# Altium integrated library TI Data Converters Analog to Digital Converter.IntLib: 2198 symbols (part 106 of 164)
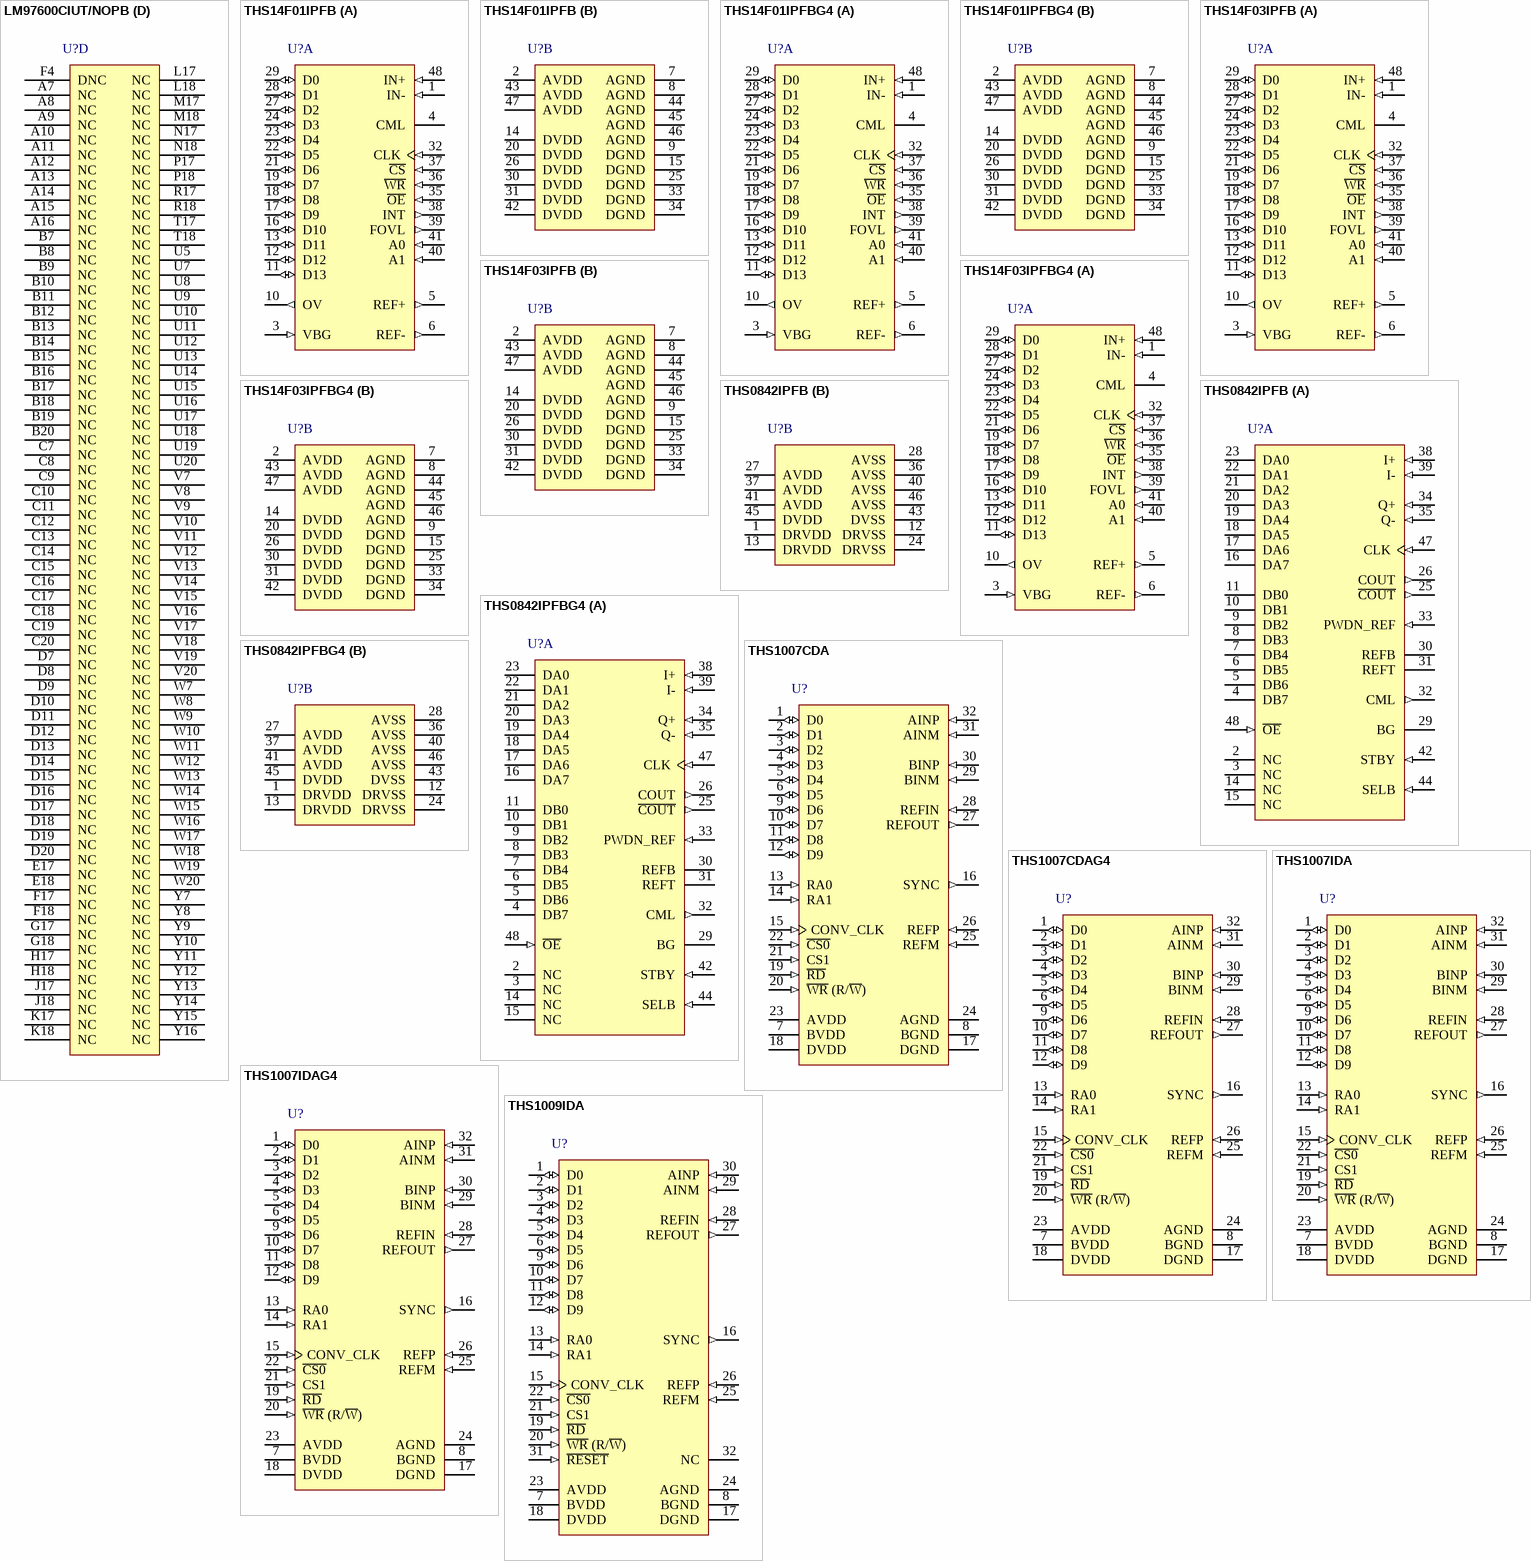
[diagram p231: symbols LM97600CIUT/NOPB to THS1009IDA]

## LM97600CIUT/NOPB
designator U?
4 Channel, 5 GSPS ADC with Buffered Inputs and Serial Data Outputs, -40 to 85 degC, 292-pin BGA (NXA292), Green (RoHS & no Sb/Br); Manufacturer: Texas Instruments; PartNumber: LM97600CIUT/NOPB; # Input Channels: 4; Analog Voltage AV/DD(Max)(V): 1.26; Analog Voltage AV/DD(Min)(V): 1.14; Architecture: Folding Interpolating; Digital Supply(Max)(V): 2.625; Digital Supply(Min)(V): 2.375; ENOB(Bits): 6.6; INL(Max)(+/-LSB): 1; Interface: Serdes; Resolution(Bits): 7.6; Sample Rate(max)(SPS): 5G; SFDR(dB): 50; SINAD(dB): 42; SNR(dB): 42.5; SubFamily: High Speed ADC (>10MSPS); DatasheetVersion: SNAS600A; PackageVersion: Rev. A, 02/2013; PackageReference: NXA292; PackageDescription: 292-Pin Plastic Grid Array, Body 27 x 27 mm, Pitch 1.27 mm; Supplier 1: Digi-Key; Supplier Part Number 1: ADS7800JU/1KG4-ND; Eco-Plan: Green (RoHS & no Sb/Br); Mounting Technology: Surface Mount; ComponentLink1Description: Manufacturer URL; ComponentLink1URL: http://www.ti.com/; ComponentLink2Description: Datasheet; ComponentLink2URL: http://www.ti.com/lit/ds/symlink/lm97600.pdf; ComponentLink3Description: Package Specification; ComponentLink3URL: http://www.ti.com/litv/pdf/mpbgab2
footprint TI-NXA292 (BGA, 292-Balls, Body 27x27mm, Pitch 1.27mm)
part A pins: A2 CLK- (in) "Sampling Clock Input", A3 CLK+ (in) "Sampling Clock Input", A5 SYNC+ (in) "ADC Sync", B5 SYNC- (in) "ADC Sync", D3 ~{SCS} (in) "Serial Chip Select (active low)", E1 VIN1+ (in) "Signal Input 1", E3 SCLK (in) "Serial Interface Clock", E19 ORAC+ (hiz) "Out Of Range AC", E20 ORAC- (hiz) "Out Of Range AC", F1 VIN1- (in) "Signal Input 1", F3 SDI (in) "Serial Data In", F19 DS9+ (hiz) "Data", F20 DS9- (hiz) "Data", G3 SDO (hiz) "Serial Data Out", G19 DS8+ (hiz) "Data", G20 DS8- (hiz) "Data", H1 VIN3- (in) "Signal Input 3", H19 DS7+ (hiz) "Data", H20 DS7- (hiz) "Data", J1 VIN3+ (in) "Signal Input 3", J19 DS6+ (hiz) "Data", J20 DS6- (hiz) "Data", K19 DS5+ (hiz) "Data", K20 DS5- (hiz) "Data", L19 DS4+ (hiz) "Data", L20 DS4- (hiz) "Data", M1 VIN4+ (in) "Signal Input 4", M19 DS3+ (hiz) "Data", M20 DS3- (hiz) "Data", N1 VIN4- (in) "Signal Input 4", N19 DS2+ (hiz) "Data", N20 DS2- (hiz) "Data", P19 DS1+ (hiz) "Data", P20 DS1- (hiz) "Data", R1 VIN2- (in) "Signal Input 2", R19 DS0+ (hiz) "Data", R20 DS0- (hiz) "Data", T1 VIN2+ (in) "Signal Input 2", T19 ORBD+ (hiz) "Out Of Range BD", T20 ORBD- (hiz) "Out Of Range BD", U4 TDIODE- "Temperature Diode", V3 VCMO (out) "Common Mode Voltage", V4 TDIODE+ "Temperature Diode", V5 CALRUN (out) "Calibration Running", W3 REXT "External Bias Resistor Connection", W4 VBG (out) "Bandgap Output Voltage", W5 CAL (in) "Calibration Cycle Initiate", Y4 RTRIM "External Trim Resistor Connection", Y5 PD (in) "Power Down"
part B pins: A6 VO (power) "Output Driver power supply pins", A17 VO (power) "Output Driver power supply pins", A19 VO (power) "Output Driver power supply pins", C1 VTH (power) "Track and Hold power supply pins", C2 VC (power) "Clock power supply pins", C3 VC (power) "Clock power supply pins", C4 VC (power) "Clock power supply pins", C5 VC (power) "Clock power supply pins", C6 VO (power) "Output Driver power supply pins", D2 VTH (power) "Track and Hold power supply pins", D4 VC (power) "Clock power supply pins", D5 VC (power) "Clock power supply pins", G2 VTH (power) "Track and Hold power supply pins", H3 VTH (power) "Track and Hold power supply pins", J3 VTH (power) "Track and Hold power supply pins", J4 VTH (power) "Track and Hold power supply pins", K2 VTH (power) "Track and Hold power supply pins", K3 VTH (power) "Track and Hold power supply pins", K4 VTH (power) "Track and Hold power supply pins", L2 VTH (power) "Track and Hold power supply pins", L3 V25 (power) "2.5V power supply pins", L4 V25 (power) "2.5V power supply pins", M3 V25 (power) "2.5V power supply pins", M4 V25 (power) "2.5V power supply pins", N3 VA (power) "Analog power supply pins", N4 VA (power) "Analog power supply pins", P2 VTH (power) "Track and Hold power supply pins", P3 VA (power) "Analog power supply pins", P4 VA (power) "Analog power supply pins", R3 VA (power) "Analog power supply pins", R4 VA (power) "Analog power supply pins", T3 VA (power) "Analog power supply pins", T4 VA (power) "Analog power supply pins", U2 VTH (power) "Track and Hold power supply pins", U3 VA (power) "Analog power supply pins", V1 VTH (power) "Track and Hold power supply pins", V2 VA (power) "Analog power supply pins", V6 VO (power) "Output Driver power supply pins", W1 VA (power) "Analog power supply pins", W2 VA (power) "Analog power supply pins", Y1 VA (power) "Analog power supply pins", Y2 VA (power) "Analog power supply pins", Y6 VO (power) "Output Driver power supply pins", Y17 VO (power) "Output Driver power supply pins", Y19 VO (power) "Output Driver power supply pins"
part C pins: A1 GND (power) "Ground return for all supplies.", A4 GND (power) "Ground return for all supplies.", A18 GND (power) "Ground return for all supplies.", A20 GND (power) "Ground return for all supplies.", B1 GND (power) "Ground return for all supplies.", B2 GND (power) "Ground return for all supplies.", B3 GND (power) "Ground return for all supplies.", B4 GND (power) "Ground return for all supplies.", B6 GND (power) "Ground return for all supplies.", D1 GND (power) "Ground return for all supplies.", D6 GND (power) "Ground return for all supplies.", E2 GND (power) "Ground return for all supplies.", E4 GND (power) "Ground return for all supplies.", F2 GND (power) "Ground return for all supplies.", G1 GND (power) "Ground return for all supplies.", G4 GND (power) "Ground return for all supplies.", H2 GND (power) "Ground return for all supplies.", H4 GND (power) "Ground return for all supplies.", H8 GND (power) "Ground return for all supplies.", H9 GND (power) "Ground return for all supplies.", H10 GND (power) "Ground return for all supplies.", H11 GND (power) "Ground return for all supplies.", H12 GND (power) "Ground return for all supplies.", H13 GND (power) "Ground return for all supplies.", J2 GND (power) "Ground return for all supplies.", J8 GND (power) "Ground return for all supplies.", J9 GND (power) "Ground return for all supplies.", J10 GND (power) "Ground return for all supplies.", J11 GND (power) "Ground return for all supplies.", J12 GND (power) "Ground return for all supplies.", J13 GND (power) "Ground return for all supplies.", K1 GND (power) "Ground return for all supplies.", K8 GND (power) "Ground return for all supplies.", K9 GND (power) "Ground return for all supplies.", K10 GND (power) "Ground return for all supplies.", K11 GND (power) "Ground return for all supplies.", K12 GND (power) "Ground return for all supplies.", K13 GND (power) "Ground return for all supplies.", L1 GND (power) "Ground return for all supplies.", L8 GND (power) "Ground return for all supplies.", L9 GND (power) "Ground return for all supplies.", L10 GND (power) "Ground return for all supplies.", L11 GND (power) "Ground return for all supplies.", L12 GND (power) "Ground return for all supplies.", L13 GND (power) "Ground return for all supplies.", M2 GND (power) "Ground return for all supplies.", M8 GND (power) "Ground return for all supplies.", M9 GND (power) "Ground return for all supplies.", M10 GND (power) "Ground return for all supplies.", M11 GND (power) "Ground return for all supplies.", M12 GND (power) "Ground return for all supplies.", M13 GND (power) "Ground return for all supplies.", N2 GND (power) "Ground return for all supplies.", N8 GND (power) "Ground return for all supplies.", N9 GND (power) "Ground return for all supplies.", N10 GND (power) "Ground return for all supplies.", N11 GND (power) "Ground return for all supplies.", N12 GND (power) "Ground return for all supplies.", N13 GND (power) "Ground return for all supplies.", P1 GND (power) "Ground return for all supplies.", R2 GND (power) "Ground return for all supplies.", T2 GND (power) "Ground return for all supplies.", U1 GND (power) "Ground return for all supplies.", U6 GND (power) "Ground return for all supplies.", W6 GND (power) "Ground return for all supplies.", Y3 RGND "External Resistor Connection Return", Y18 GND (power) "Ground return for all supplies.", Y20 GND (power) "Ground return for all supplies."
part D pins: A7 NC "No Connection", A8 NC "No Connection", A9 NC "No Connection", A10 NC "No Connection", A11 NC "No Connection", A12 NC "No Connection", A13 NC "No Connection", A14 NC "No Connection", A15 NC "No Connection", A16 NC "No Connection", B7 NC "No Connection", B8 NC "No Connection", B9 NC "No Connection", B10 NC "No Connection", B11 NC "No Connection", B12 NC "No Connection", B13 NC "No Connection", B14 NC "No Connection", B15 NC "No Connection", B16 NC "No Connection", B17 NC "No Connection", B18 NC "No Connection", B19 NC "No Connection", B20 NC "No Connection", C7 NC "No Connection", C8 NC "No Connection", C9 NC "No Connection", C10 NC "No Connection", C11 NC "No Connection", C12 NC "No Connection", C13 NC "No Connection", C14 NC "No Connection", C15 NC "No Connection", C16 NC "No Connection", C17 NC "No Connection", C18 NC "No Connection", C19 NC "No Connection", C20 NC "No Connection", D7 NC "No Connection", D8 NC "No Connection", D9 NC "No Connection", D10 NC "No Connection", D11 NC "No Connection", D12 NC "No Connection", D13 NC "No Connection", D14 NC "No Connection", D15 NC "No Connection", D16 NC "No Connection", D17 NC "No Connection", D18 NC "No Connection", D19 NC "No Connection", D20 NC "No Connection", E17 NC "No Connection", E18 NC "No Connection", F4 DNC "Do Not Connect to Any Circuitry, Power or Ground Signals", F17 NC "No Connection", F18 NC "No Connection", G17 NC "No Connection", G18 NC "No Connection", H17 NC "No Connection", H18 NC "No Connection", J17 NC "No Connection", J18 NC "No Connection", K17 NC "No Connection", K18 NC "No Connection", L17 NC "No Connection", L18 NC "No Connection", M17 NC "No Connection", M18 NC "No Connection", N17 NC "No Connection", N18 NC "No Connection", P17 NC "No Connection", P18 NC "No Connection", R17 NC "No Connection", R18 NC "No Connection", T17 NC "No Connection", T18 NC "No Connection", U5 NC "No Connection", U7 NC "No Connection", U8 NC "No Connection", U9 NC "No Connection", U10 NC "No Connection", U11 NC "No Connection", U12 NC "No Connection", U13 NC "No Connection", U14 NC "No Connection", U15 NC "No Connection", U16 NC "No Connection", U17 NC "No Connection", U18 NC "No Connection", U19 NC "No Connection", U20 NC "No Connection", V7 NC "No Connection", V8 NC "No Connection", V9 NC "No Connection", V10 NC "No Connection", V11 NC "No Connection", V12 NC "No Connection", V13 NC "No Connection", V14 NC "No Connection", V15 NC "No Connection", V16 NC "No Connection", V17 NC "No Connection", V18 NC "No Connection", V19 NC "No Connection", V20 NC "No Connection", W7 NC "No Connection", W8 NC "No Connection", W9 NC "No Connection", W10 NC "No Connection", W11 NC "No Connection", W12 NC "No Connection", W13 NC "No Connection", W14 NC "No Connection", W15 NC "No Connection", W16 NC "No Connection", W17 NC "No Connection", W18 NC "No Connection", W19 NC "No Connection", W20 NC "No Connection", Y7 NC "No Connection", Y8 NC "No Connection", Y9 NC "No Connection", Y10 NC "No Connection", Y11 NC "No Connection", Y12 NC "No Connection", Y13 NC "No Connection", Y14 NC "No Connection", Y15 NC "No Connection", Y16 NC "No Connection"

## THS14F01IPFB
designator U?
14-Bit, 1 MSPS ADC with 32-Word FIFO, -40 to 85 degC, 48-pin QFP (PFB48), Green (RoHS & no Sb/Br); Manufacturer: Texas Instruments; PartNumber: THS14F01IPFB; # Input Channels: 1; Analog Voltage AV/DD(Max)(V): 3.6; Analog Voltage AV/DD(Min)(V): 3; Architecture: Pipeline; ENOB(Bits): 11.5; INL(Max)(+/-LSB): 2.5; Interface: Parallel CMOS; Resolution(Bits): 14; Sample Rate (max)(SPS): 1M; SFDR(dB): 80; SINAD(dB): 70; SNR(dB): 72; SubFamily: Precision ADC (<=10MSPS); DatasheetVersion: SLAS285; PackageVersion: 4073176/B, 10/1996; PackageReference: PFB48; PackageDescription: 48-Pin Plastic Flat Pack, Body 7 x 7 mm, Pitch 0.5 mm; Supplier 1: Digi-Key; Supplier Part Number 1: ADS7800JUE4-ND; Digital Supply(Max)(V): 3.6; Digital Supply(Min)(V): 3; Eco-Plan: Green (RoHS & no Sb/Br); Mounting Technology: Surface Mount; Code_JEDEC: MS-026; ComponentLink1Description: Manufacturer URL; ComponentLink1URL: http://www.ti.com/; ComponentLink2Description: Datasheet; ComponentLink2URL: http://www.ti.com/general/docs/lit/getliterature.tsp?genericPartNumber=THS14F01&fileType=pdf; ComponentLink3Description: Package Specification; ComponentLink3URL: http://www.ti.com/lit/ml/mtqf019a/mtqf019a.pdf
footprint TI-PFB48_N (QFP, 48-Leads, Body 7x7mm, Pitch 0.5mm, IPC Medium Density)
footprint TI-PFB48_L (QFP, 48-Leads, Body 7x7mm, Pitch 0.5mm, IPC High Density)
footprint TI-PFB48_M (QFP, 48-Leads, Body 7x7mm, Pitch 0.5mm, IPC Low Density)
part A pins: 1 IN- (in) "Negative differential analog input", 3 VBG (in) "Reference input. This pin requires a 1-uF capacitor to AGND.", 4 CML "Reference midpoint. This pin requires a 0.1-uF capacitor to AGND.", 5 REF+ (out) "Positive reference output. This pin requires a 0.1-uF capacitor to AGND.", 6 REF- (out) "Negative reference output. This pin requires a 0.1-uF capacitor to AGND.", 10 OV (out) "Out of range output", 11 D13 (io) "Data inputs/outputs", 12 D12 (io) "Data inputs/outputs", 13 D11 (io) "Data inputs/outputs", 16 D10 (io) "Data inputs/outputs", 17 D9 (io) "Data inputs/outputs", 18 D8 (io) "Data inputs/outputs", 19 D7 (io) "Data inputs/outputs", 21 D6 (io) "Data inputs/outputs", 22 D5 (io) "Data inputs/outputs", 23 D4 (io) "Data inputs/outputs", 24 D3 (io) "Data inputs/outputs", 27 D2 (io) "Data inputs/outputs", 28 D1 (io) "Data inputs/outputs", 29 D0 (io) "Data inputs/outputs", 32 CLK (in) "Clock input", 35 ~{OE} (in) "Output enable. Active low", 36 ~{WR} (in) "Write signal. Active low", 37 ~{CS} (in) "Chip select input. Active low", 38 INT (out) "Interrupt output. Asserted when FIFO trigger level is reached. Programmable polarity", 39 FOVL (out) "FIFO Overflow. Asserted when FIFO is full. Programmable polarity", 40 A1 (in) "Address input", 41 A0 (in) "Address input", 48 IN+ (in) "Positive differential analog input"
part B pins: 2 AVDD (power) "Analog power supply", 7 AGND (power) "Analog ground", 8 AGND (power) "Analog ground", 9 DGND (power) "Digital ground", 14 DVDD (power) "Digital power supply", 15 DGND (power) "Digital ground", 20 DVDD (power) "Digital power supply", 25 DGND (power) "Digital ground", 26 DVDD (power) "Digital power supply", 30 DVDD (power) "Digital power supply", 31 DVDD (power) "Digital power supply", 33 DGND (power) "Digital ground", 34 DGND (power) "Digital ground", 42 DVDD (power) "Digital power supply", 43 AVDD (power) "Analog power supply", 44 AGND (power) "Analog ground", 45 AGND (power) "Analog ground", 46 AGND (power) "Analog ground", 47 AVDD (power) "Analog power supply"

## THS14F01IPFBG4
designator U?
14-Bit, 1 MSPS ADC with 32-Word FIFO, -40 to 85 degC, 48-pin QFP (PFB48), Green (RoHS & no Sb/Br); Manufacturer: Texas Instruments; PartNumber: THS14F01IPFBG4; # Input Channels: 1; Analog Voltage AV/DD(Max)(V): 3.6; Analog Voltage AV/DD(Min)(V): 3; Architecture: Pipeline; ENOB(Bits): 11.5; INL(Max)(+/-LSB): 2.5; Interface: Parallel CMOS; Resolution(Bits): 14; Sample Rate (max)(SPS): 1M; SFDR(dB): 80; SINAD(dB): 70; SNR(dB): 72; SubFamily: Precision ADC (<=10MSPS); DatasheetVersion: SLAS285; PackageVersion: 4073176/B, 10/1996; PackageReference: PFB48; PackageDescription: 48-Pin Plastic Flat Pack, Body 7 x 7 mm, Pitch 0.5 mm; Supplier 1: Digi-Key; Supplier Part Number 1: ADS7800KP-ND; Digital Supply(Max)(V): 3.6; Digital Supply(Min)(V): 3; Eco-Plan: Green (RoHS & no Sb/Br); Mounting Technology: Surface Mount; Code_JEDEC: MS-026; ComponentLink1Description: Manufacturer URL; ComponentLink1URL: http://www.ti.com/; ComponentLink2Description: Datasheet; ComponentLink2URL: http://www.ti.com/general/docs/lit/getliterature.tsp?genericPartNumber=THS14F01&fileType=pdf; ComponentLink3Description: Package Specification; ComponentLink3URL: http://www.ti.com/lit/ml/mtqf019a/mtqf019a.pdf
footprint TI-PFB48_N (QFP, 48-Leads, Body 7x7mm, Pitch 0.5mm, IPC Medium Density)
footprint TI-PFB48_L (QFP, 48-Leads, Body 7x7mm, Pitch 0.5mm, IPC High Density)
footprint TI-PFB48_M (QFP, 48-Leads, Body 7x7mm, Pitch 0.5mm, IPC Low Density)
part A pins: 1 IN- (in) "Negative differential analog input", 3 VBG (in) "Reference input. This pin requires a 1-uF capacitor to AGND.", 4 CML "Reference midpoint. This pin requires a 0.1-uF capacitor to AGND.", 5 REF+ (out) "Positive reference output. This pin requires a 0.1-uF capacitor to AGND.", 6 REF- (out) "Negative reference output. This pin requires a 0.1-uF capacitor to AGND.", 10 OV (out) "Out of range output", 11 D13 (io) "Data inputs/outputs", 12 D12 (io) "Data inputs/outputs", 13 D11 (io) "Data inputs/outputs", 16 D10 (io) "Data inputs/outputs", 17 D9 (io) "Data inputs/outputs", 18 D8 (io) "Data inputs/outputs", 19 D7 (io) "Data inputs/outputs", 21 D6 (io) "Data inputs/outputs", 22 D5 (io) "Data inputs/outputs", 23 D4 (io) "Data inputs/outputs", 24 D3 (io) "Data inputs/outputs", 27 D2 (io) "Data inputs/outputs", 28 D1 (io) "Data inputs/outputs", 29 D0 (io) "Data inputs/outputs", 32 CLK (in) "Clock input", 35 ~{OE} (in) "Output enable. Active low", 36 ~{WR} (in) "Write signal. Active low", 37 ~{CS} (in) "Chip select input. Active low", 38 INT (out) "Interrupt output. Asserted when FIFO trigger level is reached. Programmable polarity", 39 FOVL (out) "FIFO Overflow. Asserted when FIFO is full. Programmable polarity", 40 A1 (in) "Address input", 41 A0 (in) "Address input", 48 IN+ (in) "Positive differential analog input"
part B pins: 2 AVDD (power) "Analog power supply", 7 AGND (power) "Analog ground", 8 AGND (power) "Analog ground", 9 DGND (power) "Digital ground", 14 DVDD (power) "Digital power supply", 15 DGND (power) "Digital ground", 20 DVDD (power) "Digital power supply", 25 DGND (power) "Digital ground", 26 DVDD (power) "Digital power supply", 30 DVDD (power) "Digital power supply", 31 DVDD (power) "Digital power supply", 33 DGND (power) "Digital ground", 34 DGND (power) "Digital ground", 42 DVDD (power) "Digital power supply", 43 AVDD (power) "Analog power supply", 44 AGND (power) "Analog ground", 45 AGND (power) "Analog ground", 46 AGND (power) "Analog ground", 47 AVDD (power) "Analog power supply"

## THS14F03IPFB
designator U?
14-Bit, 3 MSPS ADC with 32-Word FIFO, -40 to 85 degC, 48-pin QFP (PFB48), Green (RoHS & no Sb/Br); Manufacturer: Texas Instruments; PartNumber: THS14F03IPFB; # Input Channels: 1; Analog Voltage AV/DD(Max)(V): 3.6; Analog Voltage AV/DD(Min)(V): 3; Architecture: Pipeline; ENOB(Bits): 11.5; INL(Max)(+/-LSB): 2.5; Interface: Parallel CMOS; Resolution(Bits): 14; Sample Rate (max)(SPS): 3M; SFDR(dB): 80; SINAD(dB): 70; SNR(dB): 72; SubFamily: Precision ADC (<=10MSPS); DatasheetVersion: SLAS285; PackageVersion: 4073176/B, 10/1996; PackageReference: PFB48; PackageDescription: 48-Pin Plastic Flat Pack, Body 7 x 7 mm, Pitch 0.5 mm; Supplier 1: Digi-Key; Supplier Part Number 1: ADS7800KPG4-ND; Digital Supply(Max)(V): 3.6; Digital Supply(Min)(V): 3; Eco-Plan: Green (RoHS & no Sb/Br); Mounting Technology: Surface Mount; Code_JEDEC: MS-026; ComponentLink1Description: Manufacturer URL; ComponentLink1URL: http://www.ti.com/; ComponentLink2Description: Datasheet; ComponentLink2URL: http://www.ti.com/general/docs/lit/getliterature.tsp?genericPartNumber=THS14F03&fileType=pdf; ComponentLink3Description: Package Specification; ComponentLink3URL: http://www.ti.com/lit/ml/mtqf019a/mtqf019a.pdf
footprint TI-PFB48_N (QFP, 48-Leads, Body 7x7mm, Pitch 0.5mm, IPC Medium Density)
footprint TI-PFB48_L (QFP, 48-Leads, Body 7x7mm, Pitch 0.5mm, IPC High Density)
footprint TI-PFB48_M (QFP, 48-Leads, Body 7x7mm, Pitch 0.5mm, IPC Low Density)
part A pins: 1 IN- (in) "Negative differential analog input", 3 VBG (in) "Reference input. This pin requires a 1-uF capacitor to AGND.", 4 CML "Reference midpoint. This pin requires a 0.1-uF capacitor to AGND.", 5 REF+ (out) "Positive reference output. This pin requires a 0.1-uF capacitor to AGND.", 6 REF- (out) "Negative reference output. This pin requires a 0.1-uF capacitor to AGND.", 10 OV (out) "Out of range output", 11 D13 (io) "Data inputs/outputs", 12 D12 (io) "Data inputs/outputs", 13 D11 (io) "Data inputs/outputs", 16 D10 (io) "Data inputs/outputs", 17 D9 (io) "Data inputs/outputs", 18 D8 (io) "Data inputs/outputs", 19 D7 (io) "Data inputs/outputs", 21 D6 (io) "Data inputs/outputs", 22 D5 (io) "Data inputs/outputs", 23 D4 (io) "Data inputs/outputs", 24 D3 (io) "Data inputs/outputs", 27 D2 (io) "Data inputs/outputs", 28 D1 (io) "Data inputs/outputs", 29 D0 (io) "Data inputs/outputs", 32 CLK (in) "Clock input", 35 ~{OE} (in) "Output enable. Active low", 36 ~{WR} (in) "Write signal. Active low", 37 ~{CS} (in) "Chip select input. Active low", 38 INT (out) "Interrupt output. Asserted when FIFO trigger level is reached. Programmable polarity", 39 FOVL (out) "FIFO Overflow. Asserted when FIFO is full. Programmable polarity", 40 A1 (in) "Address input", 41 A0 (in) "Address input", 48 IN+ (in) "Positive differential analog input"
part B pins: 2 AVDD (power) "Analog power supply", 7 AGND (power) "Analog ground", 8 AGND (power) "Analog ground", 9 DGND (power) "Digital ground", 14 DVDD (power) "Digital power supply", 15 DGND (power) "Digital ground", 20 DVDD (power) "Digital power supply", 25 DGND (power) "Digital ground", 26 DVDD (power) "Digital power supply", 30 DVDD (power) "Digital power supply", 31 DVDD (power) "Digital power supply", 33 DGND (power) "Digital ground", 34 DGND (power) "Digital ground", 42 DVDD (power) "Digital power supply", 43 AVDD (power) "Analog power supply", 44 AGND (power) "Analog ground", 45 AGND (power) "Analog ground", 46 AGND (power) "Analog ground", 47 AVDD (power) "Analog power supply"

## THS14F03IPFBG4
designator U?
14-Bit, 3 MSPS ADC with 32-Word FIFO, -40 to 85 degC, 48-pin QFP (PFB48), Green (RoHS & no Sb/Br); Manufacturer: Texas Instruments; PartNumber: THS14F03IPFBG4; # Input Channels: 1; Analog Voltage AV/DD(Max)(V): 3.6; Analog Voltage AV/DD(Min)(V): 3; Architecture: Pipeline; ENOB(Bits): 11.5; INL(Max)(+/-LSB): 2.5; Interface: Parallel CMOS; Resolution(Bits): 14; Sample Rate (max)(SPS): 3M; SFDR(dB): 80; SINAD(dB): 70; SNR(dB): 72; SubFamily: Precision ADC (<=10MSPS); DatasheetVersion: SLAS285; PackageVersion: 4073176/B, 10/1996; PackageReference: PFB48; PackageDescription: 48-Pin Plastic Flat Pack, Body 7 x 7 mm, Pitch 0.5 mm; Supplier 1: Digi-Key; Supplier Part Number 1: 296-25663-5-ND; Digital Supply(Max)(V): 3.6; Digital Supply(Min)(V): 3; Eco-Plan: Green (RoHS & no Sb/Br); Mounting Technology: Surface Mount; Code_JEDEC: MS-026; ComponentLink1Description: Manufacturer URL; ComponentLink1URL: http://www.ti.com/; ComponentLink2Description: Datasheet; ComponentLink2URL: http://www.ti.com/general/docs/lit/getliterature.tsp?genericPartNumber=THS14F03&fileType=pdf; ComponentLink3Description: Package Specification; ComponentLink3URL: http://www.ti.com/lit/ml/mtqf019a/mtqf019a.pdf
footprint TI-PFB48_N (QFP, 48-Leads, Body 7x7mm, Pitch 0.5mm, IPC Medium Density)
footprint TI-PFB48_L (QFP, 48-Leads, Body 7x7mm, Pitch 0.5mm, IPC High Density)
footprint TI-PFB48_M (QFP, 48-Leads, Body 7x7mm, Pitch 0.5mm, IPC Low Density)
part A pins: 1 IN- (in) "Negative differential analog input", 3 VBG (in) "Reference input. This pin requires a 1-uF capacitor to AGND.", 4 CML "Reference midpoint. This pin requires a 0.1-uF capacitor to AGND.", 5 REF+ (out) "Positive reference output. This pin requires a 0.1-uF capacitor to AGND.", 6 REF- (out) "Negative reference output. This pin requires a 0.1-uF capacitor to AGND.", 10 OV (out) "Out of range output", 11 D13 (io) "Data inputs/outputs", 12 D12 (io) "Data inputs/outputs", 13 D11 (io) "Data inputs/outputs", 16 D10 (io) "Data inputs/outputs", 17 D9 (io) "Data inputs/outputs", 18 D8 (io) "Data inputs/outputs", 19 D7 (io) "Data inputs/outputs", 21 D6 (io) "Data inputs/outputs", 22 D5 (io) "Data inputs/outputs", 23 D4 (io) "Data inputs/outputs", 24 D3 (io) "Data inputs/outputs", 27 D2 (io) "Data inputs/outputs", 28 D1 (io) "Data inputs/outputs", 29 D0 (io) "Data inputs/outputs", 32 CLK (in) "Clock input", 35 ~{OE} (in) "Output enable. Active low", 36 ~{WR} (in) "Write signal. Active low", 37 ~{CS} (in) "Chip select input. Active low", 38 INT (out) "Interrupt output. Asserted when FIFO trigger level is reached. Programmable polarity", 39 FOVL (out) "FIFO Overflow. Asserted when FIFO is full. Programmable polarity", 40 A1 (in) "Address input", 41 A0 (in) "Address input", 48 IN+ (in) "Positive differential analog input"
part B pins: 2 AVDD (power) "Analog power supply", 7 AGND (power) "Analog ground", 8 AGND (power) "Analog ground", 9 DGND (power) "Digital ground", 14 DVDD (power) "Digital power supply", 15 DGND (power) "Digital ground", 20 DVDD (power) "Digital power supply", 25 DGND (power) "Digital ground", 26 DVDD (power) "Digital power supply", 30 DVDD (power) "Digital power supply", 31 DVDD (power) "Digital power supply", 33 DGND (power) "Digital ground", 34 DGND (power) "Digital ground", 42 DVDD (power) "Digital power supply", 43 AVDD (power) "Analog power supply", 44 AGND (power) "Analog ground", 45 AGND (power) "Analog ground", 46 AGND (power) "Analog ground", 47 AVDD (power) "Analog power supply"

## THS0842IPFB
designator U?
8-Bit, 40 MSPS ADC Dual Channel (Configuration), Dual Simultaneous S&H, Low Power, Power Down, -40 to 85 degC, 48-pin QFP (PFB48), Green (RoHS & no Sb/Br); Manufacturer: Texas Instruments; PartNumber: THS0842IPFB; # Input Channels: 2; Analog Voltage AV/DD(Max)(V): 3.6; Analog Voltage AV/DD(Min)(V): 3; Architecture: Pipeline; ENOB(Bits): 6.9; INL(Max)(+/-LSB): 2.2; Interface: Parallel CMOS; Resolution(Bits): 8; Sample Rate (max)(SPS): 40M; SFDR(dB): 53; SINAD(dB): 43.5; SubFamily: High Speed ADC (>10MSPS); DatasheetVersion: SLAS246A; PackageVersion: 4073176/B, 10/1996; PackageReference: PFB48; PackageDescription: 48-Pin Plastic Flat Pack, Body 7 x 7 mm, Pitch 0.5 mm; Supplier 1: Digi-Key; Supplier Part Number 1: ADS7800KUE4-ND; Digital Supply(Max)(V): 3.6; Digital Supply(Min)(V): 3; Eco-Plan: Green (RoHS & no Sb/Br); Mounting Technology: Surface Mount; Code_JEDEC: MS-026; ComponentLink1Description: Manufacturer URL; ComponentLink1URL: http://www.ti.com/; ComponentLink2Description: Datasheet; ComponentLink2URL: http://www.ti.com/general/docs/lit/getliterature.tsp?genericPartNumber=THS0842&fileType=pdf; ComponentLink3Description: Package Specification; ComponentLink3URL: http://www.ti.com/lit/ml/mtqf019a/mtqf019a.pdf
footprint TI-PFB48_N (QFP, 48-Leads, Body 7x7mm, Pitch 0.5mm, IPC Medium Density)
footprint TI-PFB48_L (QFP, 48-Leads, Body 7x7mm, Pitch 0.5mm, IPC High Density)
footprint TI-PFB48_M (QFP, 48-Leads, Body 7x7mm, Pitch 0.5mm, IPC Low Density)
part A pins: 2 NC "No connect. Reserved for future use", 3 NC "No connect. Reserved for future use", 4 DB7 (hiz) "Data outputs. D7 is the MSB. This is the second bus. Data is output from the Q channel when dual bus output mode is selected. Pin SELB selects the output mode.", 5 DB6 (hiz) "Data outputs. D7 is the MSB. This is the second bus. Data is output from the Q channel when dual bus output mode is selected. Pin SELB selects the output mode.", 6 DB5 (hiz) "Data outputs. D7 is the MSB. This is the second bus. Data is output from the Q channel when dual bus output mode is selected. Pin SELB selects the output mode.", 7 DB4 (hiz) "Data outputs. D7 is the MSB. This is the second bus. Data is output from the Q channel when dual bus output mode is selected. Pin SELB selects the output mode.", 8 DB3 (hiz) "Data outputs. D7 is the MSB. This is the second bus. Data is output from the Q channel when dual bus output mode is selected. Pin SELB selects the output mode.", 9 DB2 (hiz) "Data outputs. D7 is the MSB. This is the second bus. Data is output from the Q channel when dual bus output mode is selected. Pin SELB selects the output mode.", 10 DB1 (hiz) "Data outputs. D7 is the MSB. This is the second bus. Data is output from the Q channel when dual bus output mode is selected. Pin SELB selects the output mode.", 11 DB0 (hiz) "Data outputs. D7 is the MSB. This is the second bus. Data is output from the Q channel when dual bus output mode is selected. Pin SELB selects the output mode.", 14 NC "No connect. Reserved for future use", 15 NC "No connect. Reserved for future use", 16 DA7 (hiz) "Data outputs for bus A. D7 is MSB. This is the primary bus. Data from both input channels can be output on this bus or data from the I channel only. Pin SELB selects the output mode.", 17 DA6 (hiz) "Data outputs for bus A. D7 is MSB. This is the primary bus. Data from both input channels can be output on this bus or data from the I channel only. Pin SELB selects the output mode.", 18 DA5 (hiz) "Data outputs for bus A. D7 is MSB. This is the primary bus. Data from both input channels can be output on this bus or data from the I channel only. Pin SELB selects the output mode.", 19 DA4 (hiz) "Data outputs for bus A. D7 is MSB. This is the primary bus. Data from both input channels can be output on this bus or data from the I channel only. Pin SELB selects the output mode.", 20 DA3 (hiz) "Data outputs for bus A. D7 is MSB. This is the primary bus. Data from both input channels can be output on this bus or data from the I channel only. Pin SELB selects the output mode.", 21 DA2 (hiz) "Data outputs for bus A. D7 is MSB. This is the primary bus. Data from both input channels can be output on this bus or data from the I channel only. Pin SELB selects the output mode.", 22 DA1 (hiz) "Data outputs for bus A. D7 is MSB. This is the primary bus. Data from both input channels can be output on this bus or data from the I channel only. Pin SELB selects the output mode.", 23 DA0 (hiz) "Data outputs for bus A. D7 is MSB. This is the primary bus. Data from both input channels can be output on this bus or data from the I channel only. Pin SELB selects the output mode.", 25 ~{COUT} (out) "Inverted latch clock for the data outputs", 26 COUT (out) "Latch clock for the data outputs", 29 BG "Band gap reference voltage. A 1-uF capacitor with a 0.1-uF capacitor in parallel should be connected between this terminal and AVSS for external filtering.", 30 REFB "Reference voltage bottom. The voltage at this terminal defines the bottom reference voltage for the ADC. Sufficient filtering should be applied to this input. A 1-uF capacitor with a 0.1-uF capacitor in parallel should be (See Datasheet)", 31 REFT "Reference voltage top. The voltage at this terminal defines the top reference voltage for the ADC. Sufficient filtering should be applied to this input. A 1-uF capacitor with a 0.1-uF capacitor in parallel should be (See Datasheet)", 32 CML (out) "Common mode level. This voltage is equal to (AVDD - AVSS)/2. An external 1-uF capacitor with a 0.1-uF capacitor in parallel should be connected between this terminal and AVSS.", 33 PWDN_REF (in) "Power down for internal reference voltages. A high on this terminal will disable the internal reference circuit.", 34 Q+ (in) "Positive input for analog channel 1", 35 Q- (in) "Negative input for analog channel 1", 38 I+ (in) "Positive input for analog channel 0.", 39 I- (in) "Negative input for analog channel 0.", 42 STBY (in) "Standby input. A high level on this terminal will power down the device.", 44 SELB (in) "Selects either single bus or data output or dual bus output data output. A low selects dual bus data output.", 47 CLK (in) "Clock input. The input is sampled on each rising edge of CLK.", 48 ~{OE} (in) "Output enable. A high on this terminal will disable the output bus"
part B pins: 1 DRVDD (power) "Supply voltage for output drivers", 12 DRVSS (power) "Ground for digital output drivers", 13 DRVDD (power) "Supply voltage for output drivers", 24 DRVSS (power) "Ground for digital output drivers", 27 AVDD (power) "Analog supply voltage", 28 AVSS (power) "Analog ground", 36 AVSS (power) "Analog ground", 37 AVDD (power) "Analog supply voltage", 40 AVSS (power) "Analog ground", 41 AVDD (power) "Analog supply voltage", 43 DVSS (power) "Digital ground", 45 DVDD (power) "Digital supply voltage", 46 AVSS (power) "Analog ground"

## THS0842IPFBG4
designator U?
8-Bit, 40 MSPS ADC Dual Channel (Configuration), Dual Simultaneous S&H, Low Power, Power Down, -40 to 85 degC, 48-pin QFP (PFB48), Green (RoHS & no Sb/Br); Manufacturer: Texas Instruments; PartNumber: THS0842IPFBG4; # Input Channels: 2; Analog Voltage AV/DD(Max)(V): 3.6; Analog Voltage AV/DD(Min)(V): 3; Architecture: Pipeline; ENOB(Bits): 6.9; INL(Max)(+/-LSB): 2.2; Interface: Parallel CMOS; Resolution(Bits): 8; Sample Rate (max)(SPS): 40M; SFDR(dB): 53; SINAD(dB): 43.5; SubFamily: High Speed ADC (>10MSPS); DatasheetVersion: SLAS246A; PackageVersion: 4073176/B, 10/1996; PackageReference: PFB48; PackageDescription: 48-Pin Plastic Flat Pack, Body 7 x 7 mm, Pitch 0.5 mm; Supplier 1: Digi-Key; Supplier Part Number 1: 296-20673-ND; Digital Supply(Max)(V): 3.6; Digital Supply(Min)(V): 3; Eco-Plan: Green (RoHS & no Sb/Br); Mounting Technology: Surface Mount; Code_JEDEC: MS-026; ComponentLink1Description: Manufacturer URL; ComponentLink1URL: http://www.ti.com/; ComponentLink2Description: Datasheet; ComponentLink2URL: http://www.ti.com/general/docs/lit/getliterature.tsp?genericPartNumber=THS0842&fileType=pdf; ComponentLink3Description: Package Specification; ComponentLink3URL: http://www.ti.com/lit/ml/mtqf019a/mtqf019a.pdf
footprint TI-PFB48_N (QFP, 48-Leads, Body 7x7mm, Pitch 0.5mm, IPC Medium Density)
footprint TI-PFB48_L (QFP, 48-Leads, Body 7x7mm, Pitch 0.5mm, IPC High Density)
footprint TI-PFB48_M (QFP, 48-Leads, Body 7x7mm, Pitch 0.5mm, IPC Low Density)
part A pins: 2 NC "No connect. Reserved for future use", 3 NC "No connect. Reserved for future use", 4 DB7 (hiz) "Data outputs. D7 is the MSB. This is the second bus. Data is output from the Q channel when dual bus output mode is selected. Pin SELB selects the output mode.", 5 DB6 (hiz) "Data outputs. D7 is the MSB. This is the second bus. Data is output from the Q channel when dual bus output mode is selected. Pin SELB selects the output mode.", 6 DB5 (hiz) "Data outputs. D7 is the MSB. This is the second bus. Data is output from the Q channel when dual bus output mode is selected. Pin SELB selects the output mode.", 7 DB4 (hiz) "Data outputs. D7 is the MSB. This is the second bus. Data is output from the Q channel when dual bus output mode is selected. Pin SELB selects the output mode.", 8 DB3 (hiz) "Data outputs. D7 is the MSB. This is the second bus. Data is output from the Q channel when dual bus output mode is selected. Pin SELB selects the output mode.", 9 DB2 (hiz) "Data outputs. D7 is the MSB. This is the second bus. Data is output from the Q channel when dual bus output mode is selected. Pin SELB selects the output mode.", 10 DB1 (hiz) "Data outputs. D7 is the MSB. This is the second bus. Data is output from the Q channel when dual bus output mode is selected. Pin SELB selects the output mode.", 11 DB0 (hiz) "Data outputs. D7 is the MSB. This is the second bus. Data is output from the Q channel when dual bus output mode is selected. Pin SELB selects the output mode.", 14 NC "No connect. Reserved for future use", 15 NC "No connect. Reserved for future use", 16 DA7 (hiz) "Data outputs for bus A. D7 is MSB. This is the primary bus. Data from both input channels can be output on this bus or data from the I channel only. Pin SELB selects the output mode.", 17 DA6 (hiz) "Data outputs for bus A. D7 is MSB. This is the primary bus. Data from both input channels can be output on this bus or data from the I channel only. Pin SELB selects the output mode.", 18 DA5 (hiz) "Data outputs for bus A. D7 is MSB. This is the primary bus. Data from both input channels can be output on this bus or data from the I channel only. Pin SELB selects the output mode.", 19 DA4 (hiz) "Data outputs for bus A. D7 is MSB. This is the primary bus. Data from both input channels can be output on this bus or data from the I channel only. Pin SELB selects the output mode.", 20 DA3 (hiz) "Data outputs for bus A. D7 is MSB. This is the primary bus. Data from both input channels can be output on this bus or data from the I channel only. Pin SELB selects the output mode.", 21 DA2 (hiz) "Data outputs for bus A. D7 is MSB. This is the primary bus. Data from both input channels can be output on this bus or data from the I channel only. Pin SELB selects the output mode.", 22 DA1 (hiz) "Data outputs for bus A. D7 is MSB. This is the primary bus. Data from both input channels can be output on this bus or data from the I channel only. Pin SELB selects the output mode.", 23 DA0 (hiz) "Data outputs for bus A. D7 is MSB. This is the primary bus. Data from both input channels can be output on this bus or data from the I channel only. Pin SELB selects the output mode.", 25 ~{COUT} (out) "Inverted latch clock for the data outputs", 26 COUT (out) "Latch clock for the data outputs", 29 BG "Band gap reference voltage. A 1-uF capacitor with a 0.1-uF capacitor in parallel should be connected between this terminal and AVSS for external filtering.", 30 REFB "Reference voltage bottom. The voltage at this terminal defines the bottom reference voltage for the ADC. Sufficient filtering should be applied to this input. A 1-uF capacitor with a 0.1-uF capacitor in parallel should be (See Datasheet)", 31 REFT "Reference voltage top. The voltage at this terminal defines the top reference voltage for the ADC. Sufficient filtering should be applied to this input. A 1-uF capacitor with a 0.1-uF capacitor in parallel should be (See Datasheet)", 32 CML (out) "Common mode level. This voltage is equal to (AVDD - AVSS)/2. An external 1-uF capacitor with a 0.1-uF capacitor in parallel should be connected between this terminal and AVSS.", 33 PWDN_REF (in) "Power down for internal reference voltages. A high on this terminal will disable the internal reference circuit.", 34 Q+ (in) "Positive input for analog channel 1", 35 Q- (in) "Negative input for analog channel 1", 38 I+ (in) "Positive input for analog channel 0.", 39 I- (in) "Negative input for analog channel 0.", 42 STBY (in) "Standby input. A high level on this terminal will power down the device.", 44 SELB (in) "Selects either single bus or data output or dual bus output data output. A low selects dual bus data output.", 47 CLK (in) "Clock input. The input is sampled on each rising edge of CLK.", 48 ~{OE} (in) "Output enable. A high on this terminal will disable the output bus"
part B pins: 1 DRVDD (power) "Supply voltage for output drivers", 12 DRVSS (power) "Ground for digital output drivers", 13 DRVDD (power) "Supply voltage for output drivers", 24 DRVSS (power) "Ground for digital output drivers", 27 AVDD (power) "Analog supply voltage", 28 AVSS (power) "Analog ground", 36 AVSS (power) "Analog ground", 37 AVDD (power) "Analog supply voltage", 40 AVSS (power) "Analog ground", 41 AVDD (power) "Analog supply voltage", 43 DVSS (power) "Digital ground", 45 DVDD (power) "Digital supply voltage", 46 AVSS (power) "Analog ground"

## THS1007CDA
designator U?
10-Bit, 6 MSPS Simultaneous Sampling Quad Channel ADC, Includes Parallel DSP / uP Interface & Channel Autoscan, 0 to 70 degC, 32-pin SOP (DA32), Green (RoHS & no Sb/Br); Manufacturer: Texas Instruments; PartNumber: THS1007CDA; # Input Channels: 4; Analog Voltage AV/DD(Max)(V): 5.25; Analog Voltage AV/DD(Min)(V): 4.75; Architecture: Pipeline; ENOB(Bits): 9.5; INL(Max)(+/-LSB): 1; Interface: Parallel CMOS; Resolution(Bits): 10; Sample Rate (max)(SPS): 6M; SFDR(dB): 65; SINAD(dB): 59; SNR(dB): 61; SubFamily: Precision ADC (<=10MSPS); DatasheetVersion: SLAS286B; PackageVersion: 4040066/F, 01/2009; PackageReference: DA32; PackageDescription: 32-Pin Plastic Small Outline, Body 11 x 6.1 mm, Pitch 0.65 mm; Supplier 1: Mouser; Supplier Part Number 1: 595-V62/06668-01XE; Digital Supply(Max)(V): 5.25; Digital Supply(Min)(V): 4.75; Eco-Plan: Green (RoHS & no Sb/Br); Mounting Technology: Surface Mount; Code_JEDEC: MO-225; ComponentLink1Description: Manufacturer URL; ComponentLink1URL: http://www.ti.com/; ComponentLink2Description: Datasheet; ComponentLink2URL: http://www.ti.com/general/docs/lit/getliterature.tsp?genericPartNumber=THS1007&fileType=pdf; ComponentLink3Description: Package Specification; ComponentLink3URL: http://www.ti.com/lit/ml/mtss002e/mtss002e.pdf
footprint TI-DA32_N (SOP, 32-Leads, Body 11x6.1mm, Pitch 0.65mm, IPC Medium Density)
footprint TI-DA32_L (SOP, 32-Leads, Body 11x6.1mm, Pitch 0.65mm, IPC High Density)
footprint TI-DA32_M (SOP, 32-Leads, Body 11x6.1mm, Pitch 0.65mm, IPC Low Density)
pins: 1 D0 (io) "Digital input, output; D0 = LSB", 2 D1 (io) "Digital input, output", 3 D2 (io) "Digital input, output", 4 D3 (io) "Digital input, output", 5 D4 (io) "Digital input, output", 6 D5 (io) "Digital input, output", 7 BVDD (power) "Digital supply voltage for buffer", 8 BGND (power) "Digital ground for buffer", 9 D6 (io) "Digital input, output", 10 D7 (io) "Digital input, output", 11 D8 (io) "Digital input, output", 12 D9 (io) "Digital input, output", 13 RA0 (in) "Digital input. RA0 is used as an address line for the control register. This is required for writing to the control register 0 and control register 1.", 14 RA1 (in) "Digital input. RA1 is used as an address line for the control register. This is required for writing to control register 0 and control register 1.", 15 CONV_CLK (in) "Digital input. This input is the conversion clock input.", 16 SYNC (out) "Synchronization output. This signal indicates in a multichannel operation that data of channel A is brought to the digital output and can therefore be used for synchronization.", 17 DGND (power) "Digital ground. Ground reference for digital circuitry.", 18 DVDD (power) "Digital supply voltage", 19 ~{RD} (in) "The R\D\ input is used only if the W\R\ input is configured as a write only input. In this case, it is a digital input, active low as a data read select from the processor. See timing section.", 20 ~{WR} (R/~{W}) (in) "This input is programmable. It functions as a read-write input R/W\ and can also be configured as a write-only input W\R\, which is active low and used as data write select from the processor. In this case, the R\D\ input is (See Datasheet)", 21 CS1 (in) "Chip select input (active high)", 22 ~{CS0} (in) "Chip select input (active low)", 23 AVDD (power) "Analog supply voltage", 24 AGND (power) "Analog ground", 25 REFM (in) "Reference input, requires a bypass capacitor of 10 uF to AGND in order to bypass the internal reference voltage. An external reference voltage at this input can be applied. This option can be programmed through control (See Datasheet)", 26 REFP (in) "Reference input, requires a bypass capacitor of 10 uF to AGND in order to bypass the internal reference voltage. An external reference voltage at this input can be applied. This option can be programmed through control (See Datasheet)", 27 REFOUT (out) "Analog fixed reference output voltage of 2.5 V. Sink and source capability of 250 uA. The reference output requires a capacitor of 10 uF to AGND for filtering and stability.", 28 REFIN (in) "Common-mode reference input for the analog input channels. It is recommended that this pin be connected to the reference output REFOUT.", 29 BINM (in) "Analog input, single-ended or negative input of differential channel B", 30 BINP (in) "Analog input, single-ended or positive input of differential channel B", 31 AINM (in) "Analog input, single-ended or negative input of differential channel A", 32 AINP (in) "Analog input, single-ended or positive input of differential channel A"

## THS1007CDAG4
designator U?
10-Bit, 6 MSPS Simultaneous Sampling Quad Channel ADC, Includes Parallel DSP / uP Interface & Channel Autoscan, 0 to 70 degC, 32-pin SOP (DA32), Green (RoHS & no Sb/Br); Manufacturer: Texas Instruments; PartNumber: THS1007CDAG4; # Input Channels: 4; Analog Voltage AV/DD(Max)(V): 5.25; Analog Voltage AV/DD(Min)(V): 4.75; Architecture: Pipeline; ENOB(Bits): 9.5; INL(Max)(+/-LSB): 1; Interface: Parallel CMOS; Resolution(Bits): 10; Sample Rate (max)(SPS): 6M; SFDR(dB): 65; SINAD(dB): 59; SNR(dB): 61; SubFamily: Precision ADC (<=10MSPS); DatasheetVersion: SLAS286B; PackageVersion: 4040066/F, 01/2009; PackageReference: DA32; PackageDescription: 32-Pin Plastic Small Outline, Body 11 x 6.1 mm, Pitch 0.65 mm; Supplier 1: Digi-Key; Supplier Part Number 1: 296-20672-ND; Digital Supply(Max)(V): 5.25; Digital Supply(Min)(V): 4.75; Eco-Plan: Green (RoHS & no Sb/Br); Mounting Technology: Surface Mount; Code_JEDEC: MO-225; ComponentLink1Description: Manufacturer URL; ComponentLink1URL: http://www.ti.com/; ComponentLink2Description: Datasheet; ComponentLink2URL: http://www.ti.com/general/docs/lit/getliterature.tsp?genericPartNumber=THS1007&fileType=pdf; ComponentLink3Description: Package Specification; ComponentLink3URL: http://www.ti.com/lit/ml/mtss002e/mtss002e.pdf
footprint TI-DA32_N (SOP, 32-Leads, Body 11x6.1mm, Pitch 0.65mm, IPC Medium Density)
footprint TI-DA32_L (SOP, 32-Leads, Body 11x6.1mm, Pitch 0.65mm, IPC High Density)
footprint TI-DA32_M (SOP, 32-Leads, Body 11x6.1mm, Pitch 0.65mm, IPC Low Density)
pins: 1 D0 (io) "Digital input, output; D0 = LSB", 2 D1 (io) "Digital input, output", 3 D2 (io) "Digital input, output", 4 D3 (io) "Digital input, output", 5 D4 (io) "Digital input, output", 6 D5 (io) "Digital input, output", 7 BVDD (power) "Digital supply voltage for buffer", 8 BGND (power) "Digital ground for buffer", 9 D6 (io) "Digital input, output", 10 D7 (io) "Digital input, output", 11 D8 (io) "Digital input, output", 12 D9 (io) "Digital input, output", 13 RA0 (in) "Digital input. RA0 is used as an address line for the control register. This is required for writing to the control register 0 and control register 1.", 14 RA1 (in) "Digital input. RA1 is used as an address line for the control register. This is required for writing to control register 0 and control register 1.", 15 CONV_CLK (in) "Digital input. This input is the conversion clock input.", 16 SYNC (out) "Synchronization output. This signal indicates in a multichannel operation that data of channel A is brought to the digital output and can therefore be used for synchronization.", 17 DGND (power) "Digital ground. Ground reference for digital circuitry.", 18 DVDD (power) "Digital supply voltage", 19 ~{RD} (in) "The R\D\ input is used only if the W\R\ input is configured as a write only input. In this case, it is a digital input, active low as a data read select from the processor. See timing section.", 20 ~{WR} (R/~{W}) (in) "This input is programmable. It functions as a read-write input R/W\ and can also be configured as a write-only input W\R\, which is active low and used as data write select from the processor. In this case, the R\D\ input is (See Datasheet)", 21 CS1 (in) "Chip select input (active high)", 22 ~{CS0} (in) "Chip select input (active low)", 23 AVDD (power) "Analog supply voltage", 24 AGND (power) "Analog ground", 25 REFM (in) "Reference input, requires a bypass capacitor of 10 uF to AGND in order to bypass the internal reference voltage. An external reference voltage at this input can be applied. This option can be programmed through control (See Datasheet)", 26 REFP (in) "Reference input, requires a bypass capacitor of 10 uF to AGND in order to bypass the internal reference voltage. An external reference voltage at this input can be applied. This option can be programmed through control (See Datasheet)", 27 REFOUT (out) "Analog fixed reference output voltage of 2.5 V. Sink and source capability of 250 uA. The reference output requires a capacitor of 10 uF to AGND for filtering and stability.", 28 REFIN (in) "Common-mode reference input for the analog input channels. It is recommended that this pin be connected to the reference output REFOUT.", 29 BINM (in) "Analog input, single-ended or negative input of differential channel B", 30 BINP (in) "Analog input, single-ended or positive input of differential channel B", 31 AINM (in) "Analog input, single-ended or negative input of differential channel A", 32 AINP (in) "Analog input, single-ended or positive input of differential channel A"